# EAGLE library part TMR2D (library Zoli2_2015-01-28)
Regulated DC/DC converter, dual output
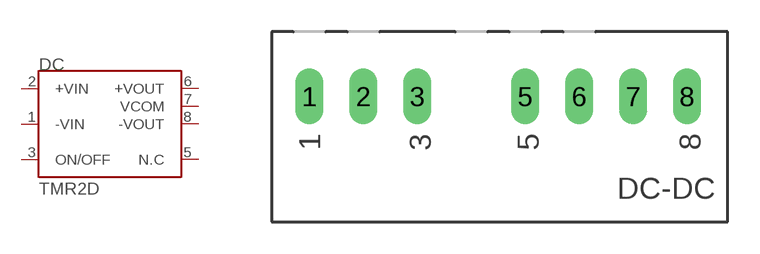
[diagram p30: symbol with the pads of TMR2P; footprint TMR2P]

Designator prefix DC

## TMR2D  [TMR2P]
1  -VIN  pwr
2  +VIN  pwr
3  ON/OFF  pwr
5  N.C  nc
6  +VOUT  pwr
7  VCOM  pwr
8  -VOUT  pwr

## Footprint TMR2P (pad centres in mm)
drill 0.813 long: 1 0,0; 2 2.54,0; 3 5.08,0; 5 10.16,0; 6 12.7,0; 7 15.24,0; 8 17.78,0